# Altium schematic symbol library TMC6300-LA.SchLib: 1 symbol
Pins are listed as number, name and electrical type; pins without a type are passive.

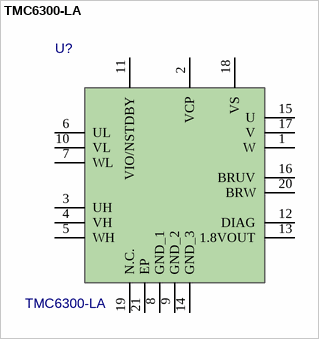
[diagram p0: symbol TMC6300-LA]

## TMC6300-LA
designator U?
Highly Efficient Low Voltage, Zero Standby Current Driver for 3-Phase BLDC/PMSM Motors up to 2A peak, Triple Half-Bridge with separate HS and LS control signals; Manufacturer_Name: Analog Devices; Geometry.Height: 0.9mm; Manufacturer_Part_Number: TMC6300-LA; Mouser Part Number: 700-TMC6300-LA; Mouser Price/Stock: https://www.mouser.co.uk/ProductDetail/ADI-Trinamic/TMC6300-LA?qs=QNEnbhJQKvYIagO3WUG%252BYg%3D%3D; Arrow Part Number: TMC6300-LA; Arrow Price/Stock: https://www.arrow.com/en/products/tmc6300-la/analog-devices?region=nac; Datasheet Link: https://www.analog.com/TMC6300/datasheet
footprint QFN40P300X300X90-21N
pins: 1 W, 2 VCP, 3 UH, 4 VH, 5 WH, 6 UL, 7 WL, 8 GND_1, 9 GND_2, 10 VL, 11 VIO/NSTDBY, 12 DIAG, 13 1.8VOUT, 14 GND_3, 15 U, 16 BRUV, 17 V, 18 VS, 19 N.C., 20 BRW, 21 EP